# Altium schematic symbol library NET_TIE_2PIN.SchLib: 1 symbol
Pins are listed as number, name and electrical type; pins without a type are passive.

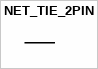
[diagram p0: symbol NET_TIE_2PIN]

## NET_TIE_2PIN
designator NET_TIE?  (net tie, no BOM)
pins: 1, 2